# Altium schematic symbol library generic library.SchLib: 17 symbols
Pins are listed as number, name and electrical type; pins without a type are passive.

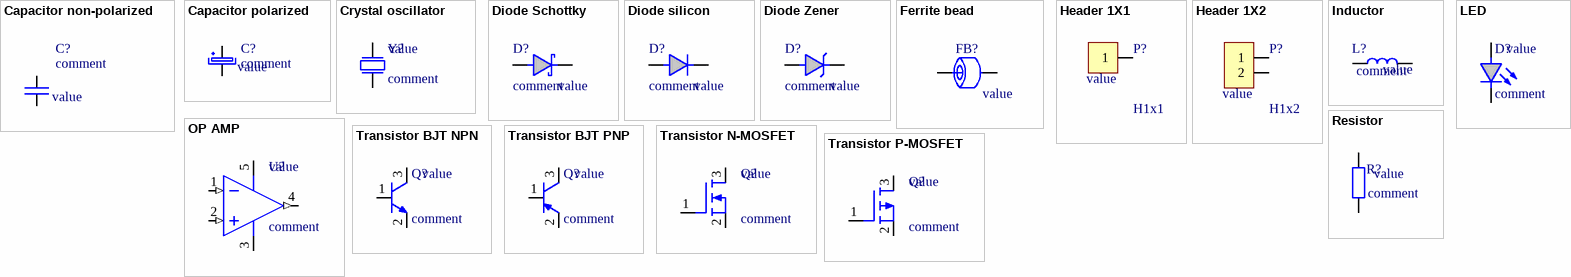
[diagram p0: symbols Capacitor non-polarized to Transistor P-MOSFET]

## Capacitor non-polarized
designator C?, comment comment
Value: value
footprint CAP_0603_N (Chip Capacitor, 2-Leads, Body 1.57x0.85mm, IPC Medium Density)
footprint CAP_0805_N (Chip Capacitor, 2-Leads, Body 2.05x1.25mm, IPC Medium Density)
footprint CAP_1206_N (Chip Capacitor, 2-Leads, Body 3.20x1.60mm, IPC Medium Density)
pins: 1, 2

## Capacitor polarized
designator C?, comment comment
Value: value
footprint CAP Tantal C (Molded Capacitor, 2-Leads, Body 6,0x3,2mm, IPC Medium Density)
footprint E-CAP-SMD-C (Aluminum Electrolytic Capacitor, Body 5.30x5.30x6.10mm, IPC Medium Density)
footprint E-CAP 5X_ R2.54
pins: 1 +, 2 -

## Crystal oscillator
designator Y?, comment comment
Value: value
footprint Crystal THT short (Crystal short THT)
pins: 1, 2

## Diode Schottky
designator D?, comment comment
Value: value
footprint SOD-123_N (Diode, Small Outline Diode (SOD); 2.675 mm L X 1.60 mm W X 1.30 mm H body)
footprint DO-7 (Diode, Axial; 12.70 mm C X 0.508 mm W 7.62 mm L X 2.71 mm Dia body)
footprint DO-214AC_SMA_N (Diode, Molded Body; 5.20 mm L X 2.55 mm W X 3.00 mm H body)
footprint DO-214AA_SMB_N (Diode, Molded Body; 5.40 mm L X 3.62 mm W X 2.44 mm H body)
footprint DO-214AB_SMC_N (Diode, Molded Body; 7.94 mm L X 5.905 mm W X 2.62 mm H body)
footprint MELF_N (Diode, Metal Electrode Leadless Face (MELF); 5.00 mm L X 2.50 mm Dia body)
pins: A, C

## Diode silicon
designator D?, comment comment
Value: value
footprint SOD-123_N (Diode, Small Outline Diode (SOD); 2.675 mm L X 1.60 mm W X 1.30 mm H body)
footprint DO-7 (Diode, Axial; 12.70 mm C X 0.508 mm W 7.62 mm L X 2.71 mm Dia body)
footprint MELF_N (Diode, Metal Electrode Leadless Face (MELF); 5.00 mm L X 2.50 mm Dia body)
footprint DO-214AA_SMB_N (Diode, Molded Body; 5.40 mm L X 3.62 mm W X 2.44 mm H body)
footprint DO-214AB_SMC_N (Diode, Molded Body; 7.94 mm L X 5.905 mm W X 2.62 mm H body)
footprint DO-214AC_SMA_N (Diode, Molded Body; 5.20 mm L X 2.55 mm W X 3.00 mm H body)
pins: A, C

## Diode Zener
designator D?, comment comment
Value: value
footprint SOD-123_N (Diode, Small Outline Diode (SOD); 2.675 mm L X 1.60 mm W X 1.30 mm H body)
footprint MELF_N (Diode, Metal Electrode Leadless Face (MELF); 5.00 mm L X 2.50 mm Dia body)
footprint DO-7 (Diode, Axial; 12.70 mm C X 0.508 mm W 7.62 mm L X 2.71 mm Dia body)
footprint DO-214AA_SMB_N (Diode, Molded Body; 5.40 mm L X 3.62 mm W X 2.44 mm H body)
footprint DO-214AB_SMC_N (Diode, Molded Body; 7.94 mm L X 5.905 mm W X 2.62 mm H body)
footprint DO-214AC_SMA_N (Diode, Molded Body; 5.20 mm L X 2.55 mm W X 3.00 mm H body)
pins: A, C

## Ferrite bead
designator FB?, comment comment  (value not drawn)
Value: value
footprint SMD_0603_N (Chip 2-Leads, Body 1.57x0.85mm, IPC Medium Density)
footprint SMD_0805_N (Chip 2-Leads, Body 2.05x1.25mm, IPC Medium Density)
footprint SMD_1206_N (Chip 2-Leads, Body 3.15x1.60mm, IPC Medium Density)
pins: 1, 2

## Header 1X1
designator P?, comment H1x1
Value: value
footprint HDR1X1 (Connector; Header; 1 Position)
pins: 1

## Header 1X2
designator P?, comment H1x2
Value: value
footprint HDR1X2 (Connector; Header; 2 Position)
pins: 1, 2

## Inductor
designator L?, comment comment
Value: value
footprint SMD_0603_N (Chip 2-Leads, Body 1.57x0.85mm, IPC Medium Density)
footprint SMD_0805_N (Chip 2-Leads, Body 2.05x1.25mm, IPC Medium Density)
footprint SMD_1206_N (Chip 2-Leads, Body 3.15x1.60mm, IPC Medium Density)
footprint IND_4040_N (Inductor, Chip; 4.00 mm L X 4.00 mm W X 2.50 mm H body)
pins: 1, 2

## LED
designator D?, comment comment
Value: value
footprint LED_0603_N (SMD LED, 2-Leads, Body 1.57x0.85mm, IPC Medium Density)
footprint LED_0805_N (SMD LED, 2-Leads, Body 2.05x1.25mm, IPC Medium Density)
footprint LED_1206_N (SMD LED, 2-Leads, Body 3.15x1.60mm, IPC Medium Density)
footprint LED 3MM (Led THT Round 3mm)
footprint LED 5MM (Led THT Round 5mm)
pins: A, C

## OP AMP
designator U?, comment comment
Value: value
footprint DIP8
pins: 1 IN- (in), 2 IN+ (in), 3 V- (power), 4 OUT (out), 5 V+ (power)

## Resistor
designator R?, comment comment
Value: value
footprint SMD_0603_N (Chip 2-Leads, Body 1.57x0.85mm, IPC Medium Density)
footprint SMD_0805_N (Chip 2-Leads, Body 2.05x1.25mm, IPC Medium Density)
footprint SMD_1206_N (Chip 2-Leads, Body 3.15x1.60mm, IPC Medium Density)
footprint RES AX 400 MILS
footprint RES AX 500 MILS
footprint RES AX 300 MILS
pins: 1, 2

## Transistor BJT NPN
designator Q?, comment comment
Value: value
footprint SOT23-3_N (Small Outline Transistor (SOT23), 0.96 mm pitch; 3 pin, 2.92 mm L X 1.30 mm W X 1.12 mm H body)
footprint TO-220AB vertical
footprint TO-92
pins: 1 B, 2 E, 3 C

## Transistor BJT PNP
designator Q?, comment comment
Value: value
footprint SOT23-3_N (Small Outline Transistor (SOT23), 0.96 mm pitch; 3 pin, 2.92 mm L X 1.30 mm W X 1.12 mm H body)
footprint TO-220AB vertical
footprint TO-92
pins: 1 B, 2 E, 3 C

## Transistor N-MOSFET
designator Q?, comment comment
Value: value
footprint SOT23-3_N (Small Outline Transistor (SOT23), 0.96 mm pitch; 3 pin, 2.92 mm L X 1.30 mm W X 1.12 mm H body)
footprint TO-220AB vertical
footprint TO-92
pins: 1 G, 2 S, 3 D

## Transistor P-MOSFET
designator Q?, comment comment
Value: value
footprint SOT23-3_N (Small Outline Transistor (SOT23), 0.96 mm pitch; 3 pin, 2.92 mm L X 1.30 mm W X 1.12 mm H body)
footprint TO-220AB vertical
footprint TO-92
pins: 1 G, 2 S, 3 D